# Altium footprint library RayPCB20210502.PcbLib: 231 footprints (part 14 of 15)
Each footprint in its own frame and in the unit in brackets; x right, y up, seen from the top. Pads: shape width x height; smd on the part's side, far side on the other; paste and mask are expansions set on the pad; w line width, h text height; cw(c..) or ccw(c..) is an arc to the next point about the centre after c.
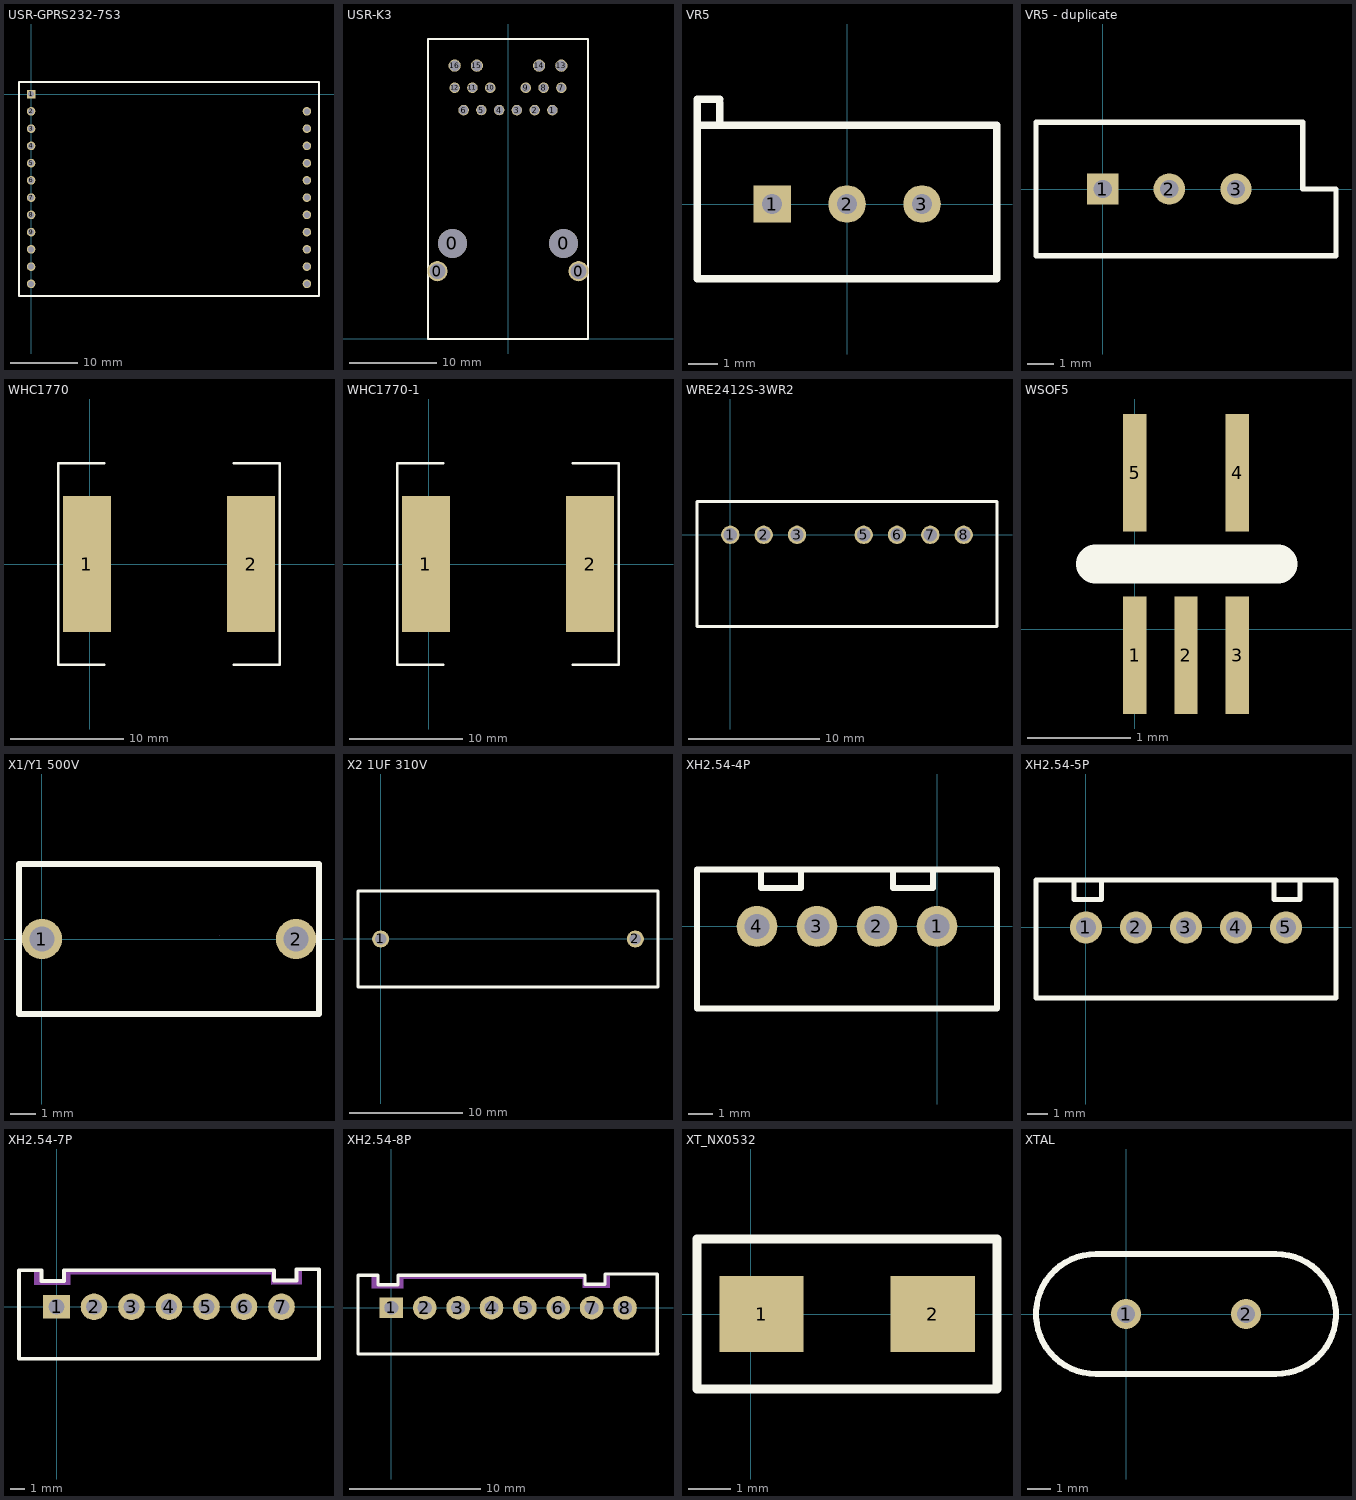
[diagram p13: the footprints below, top view; thin cyan lines are the x and y axes]

## USR-GPRS232-7S3 [mil]
pads (23):
  rect 50x50 hole 35: 1(0,0)
  round 50 hole 35: 2(0,-100) 3(0,-200) 4(0,-300) 5(0,-400) 6(0,-500) 7(0,-600) 8(0,-700) 9(0,-800) 10(0,-900) 11(0,-1000) 12(0,-1100) 13(1600,-1100) 14(1600,-1000) 15(1600,-900) 16(1600,-800) 17(1600,-700) 18(1600,-600) 19(1600,-500) 20(1600,-400) 21(1600,-300) 22(1600,-200) 23(1600,-100)
Top Overlay:
  lines w10: -70,-1170 1670,-1170 1670,70 -70,70 -70,-1120 -70,-1170

## USR-K3 [mm]
pads (20):
  round 2.3 hole 1.8: 0(-8.065,7.75) 0(8.065,7.75)
  round 3.3 hole 3.3: 0(-6.35,10.93) 0(6.35,10.93)
  round 1.2 hole 1: 1(5.075,26.162) 2(3.045,26.162) 3(1.015,26.162) 4(-1.015,26.17) 5(-3.045,26.17) 6(-5.075,26.162) 7(6.096,28.71) 8(4.065,28.71) 9(2.035,28.71) 10(-2.035,28.71) 11(-4.065,28.71) 12(-6.096,28.71)
  round 1.4 hole 1.2: 13(6.096,31.242) 14(3.555,31.242) 15(-3.555,31.242) 16(-6.096,31.25)
Top Overlay:
  lines w0.254: -9.144,0 -7.747,0 9.144,0 9.144,34.29 -9.144,34.29 -9.144,0

## VR5 [mil]
pads (3):
  rect 50x50 hole 27: 1(-100,0)
  round 50 hole 27: 2(0,0) 3(100,0)
Top Overlay:
  lines w10: -170,105 -170,135 ; -170,140 -200,140 -200,105 ; -200,105 -200,-100 200,-100 200,105 -200,105

## VR5 - duplicate [mm] "RES-ADJ"
pads (3):
  rect 1.2x1.2 hole 0.7: 1(0,0)
  round 1.2 hole 0.7: 2(2.54,0) 3(5.08,0)
Top Overlay:
  lines w0.2: -2.54,-2.54 8.89,-2.54 8.89,0 7.62,0 7.62,2.54 -2.54,2.54 -2.54,-2.54

## WHC1770 [mm]
pads (2):
  rect 4.2x12 smd: 1(-0.254,0) 2(14.224,0)
Top Overlay:
  lines w0.254: 1.27,-8.89 -2.794,-8.89 -2.794,8.89 1.27,8.89 ; 12.7,-8.89 16.764,-8.89 16.764,8.89 12.7,8.89

## WHC1770-1 [mm]
pads (2):
  rect 4.2x12 smd: 1(-0.254,0) 2(14.224,0)
Top Overlay:
  lines w0.254: 1.27,-8.89 -2.794,-8.89 -2.794,8.89 1.27,8.89 ; 12.7,-8.89 16.764,-8.89 16.764,8.89 12.7,8.89

## WRE2412S-3WR2 [mil]
pads (7):
  round 55 hole 40: 1(0,0) 2(100,0) 3(200,0) 5(400,0) 6(500,0) 7(600,0) 8(700,0)
Top Overlay:
  lines w10: -100,-275 800,-275 800,100 -100,100 -100,-275

## WSOF5 [mil] "BH1721"
pads (5):
  rect 9x45 smd: 1(0,-10) 2(19.68,-10) 3(39.37,-10) 4(39.37,60) 5(0,60)
Top Overlay:
  lines w15: -15,25 55,25

## X1/Y1 500V [mm]
pads (2):
  round 1.6 hole 1: 1(0,0) 2(10.16,0)
Top Overlay:
  lines w0.254: -0.92,-3 -0.92,3 11.08,3 11.08,-3 -0.92,-3
Mechanical 15:
  lines w0.003: 7.112,0.127 7.112,0.127

## X2 1UF 310V [mm]
pads (2):
  round 1.5 hole 1: 1(0,0) 2(22.5,0)
Top Overlay:
  lines w0.254: -2,-4.25 24.5,-4.25 24.5,4.25 -2,4.25 -2,0 -2,-4.25

## XH2.54-4P [mm]
pads (4):
  round 1.7 hole 1.05: 1(0,0) 2(-2.5,0) 3(-5,0) 4(-7.5,0)
Top Overlay:
  lines w0.254: -10,-3.425 -10,2.375 2.5,2.375 2.5,-3.425 -9.99,-3.425 -10,-3.415 ; -7.325,2.375 -7.325,1.6 -5.662,1.6 -5.662,2.327 -5.71,2.375 ; -1.838,2.375 -1.838,1.6 -0.175,1.6 -0.175,2.327 -0.222,2.375

## XH2.54-5P [mm]
pads (5):
  round 1.6 hole 1 paste+0 mask+0.05: 1(0,0) 2(2.5,0) 3(5,0) 4(7.5,0) 5(10,0)
Top Overlay:
  lines w0.254: -0.543,2.375 -0.6,2.375 -0.6,1.4 0.7,1.4 0.765,1.4 0.765,2.375 ; 9.465,2.375 9.4,2.375 9.4,1.4 10.7,1.4 10.697,1.4 10.697,2.375 ; -2.5,-3.525 12.5,-3.525 12.5,2.375 -2.5,2.375 -2.5,-3.525

## XH2.54-7P [mm]
pads (7):
  rect 1.8x1.575 hole 1 slot 1.05 at 0 deg: 1(0,0)
  round 1.8 hole 1 slot 1.05 at 0 deg: 2(2.54,0) 3(5.08,0) 4(7.62,0) 5(10.16,0) 6(12.7,0) 7(15.24,0)
Top Overlay:
  lines w0.254: 16.256,2.512 16.256,1.782 14.732,1.782 14.732,2.48 9.652,2.48 7.112,2.48 0.508,2.48 0.508,1.75 -1.016,1.75 -1.016,2.48 -2.54,2.48 -2.54,-3.52 10.16,-3.52 12.7,-3.52 17.78,-3.52 ; 16.256,2.544 17.78,2.544 ; 17.78,-3.488 17.78,2.512
Mechanical 15:
  region: -1.08,2.41 -1.08,1.77 -1.1,1.75 0.57,1.75 0.58,1.74 0.58,2.41 14.76,2.41 14.76,1.76 14.78,1.74 16.25,1.74 16.27,1.72 16.27,2.38 16.31,2.42 16.6,2.42 16.6,1.53 16.61,1.52 14.56,1.52 14.55,1.51 14.55,2.19 14.54,2.2 0.93,2.2 0.92,2.19 0.92,1.49 -1.51,1.49 -1.51,2.4 -1.53,2.42

## XH2.54-8P [mm]
pads (8):
  rect 1.8x1.575 hole 1 slot 1.05 at 0 deg: 1(0,0)
  round 1.8 hole 1 slot 1.05 at 0 deg: 2(2.54,0) 3(5.08,0) 4(7.62,0) 5(10.16,0) 6(12.7,0) 7(15.24,0) 8(17.78,-0.01)
Top Overlay:
  lines w0.254: 16.256,2.512 16.256,1.782 14.732,1.782 14.732,2.48 9.652,2.48 7.112,2.48 0.508,2.48 0.508,1.75 -1.016,1.75 -1.016,2.48 -2.54,2.48 -2.54,-3.52 10.16,-3.52 12.7,-3.52 20.29,-3.49 ; 16.256,2.544 20.24,2.57 ; 20.24,-3.44 20.24,2.56
Mechanical 15:
  region: -1.08,2.41 -1.08,1.77 -1.1,1.75 0.57,1.75 0.58,1.74 0.58,2.41 14.76,2.41 14.76,1.76 14.78,1.74 16.25,1.74 16.27,1.72 16.27,2.38 16.31,2.42 16.6,2.42 16.6,1.53 16.61,1.52 14.56,1.52 14.55,1.51 14.55,2.19 14.54,2.2 0.93,2.2 0.92,2.19 0.92,1.49 -1.51,1.49 -1.51,2.4 -1.53,2.42

## XT_NX0532 [mm]
pads (2):
  rect 2x1.8 smd: 1(0.26,0) 2(4.318,0)
Top Overlay:
  lines w0.203: -1.27,-1.778 5.842,-1.778 5.842,1.778 -1.27,1.778 -1.27,-1.778

## XTAL [mil]
pads (2):
  round 50 hole 30: 1(0,0) 2(200,0)
Top Overlay:
  lines w10: -50,-100 cw(c-50,0) -50,100 250,100 cw(c250,0) 250,-100 -50,-100